# Altium schematic symbol library SCH - CONNECTORS - IPL1-102-XX-X-D-X.SCHLIB: 1 symbol
Pins are listed as number, name and electrical type; pins without a type are passive.

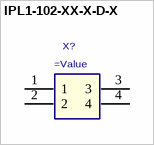
[diagram p0: symbol IPL1-102-XX-X-D-X]

## IPL1-102-XX-X-D-X
designator X?
2.54mm Double Row Terminal Assembly, Right-Angled
pins: 1, 2, 3, 4